# EAGLE library part RAZORIMU (library charleses_parts_bin)
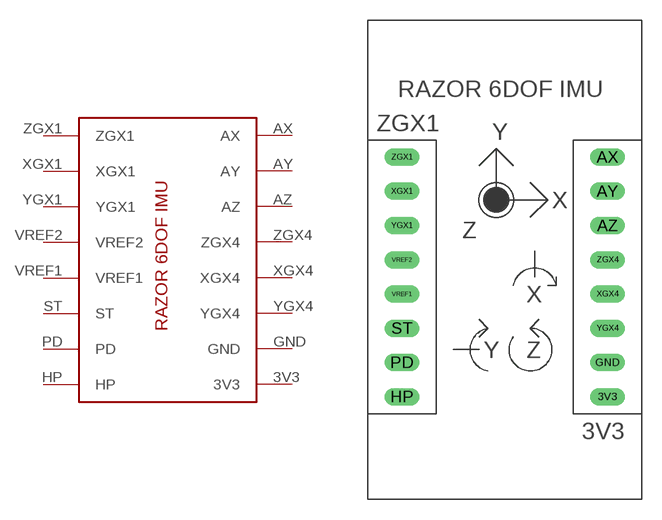
[diagram p12: symbol with the pads of RAZORIMU; footprint RAZORIMU]

Designator prefix -

## RAZORIMU  [RAZORIMU]
3V3  3V3
AX  AX
AY  AY
AZ  AZ
GND  GND
HP  HP
PD  PD
ST  ST
VREF1  VREF1
VREF2  VREF2
XGX1  XGX1
XGX4  XGX4
YGX1  YGX1
YGX4  YGX4
ZGX1  ZGX1
ZGX4  ZGX4

## Footprint RAZORIMU (pad centres in mm)
drill 0.8 long: 3V3 7.62,-8.89; AX 7.62,8.89; AY 7.62,6.35; AZ 7.62,3.81; GND 7.62,-6.35; HP -7.62,-8.89; PD -7.62,-6.35; ST -7.62,-3.81; VREF1 -7.62,-1.27; VREF2 -7.62,1.27; XGX1 -7.62,6.35; XGX4 7.62,-1.27; YGX1 -7.62,3.81; YGX4 7.62,-3.81; ZGX1 -7.62,8.89; ZGX4 7.62,1.27